# Altium footprint library PCB - CONNECTOR - AMPHENOL RJ45.PCBLIB: 1 footprints
Each footprint in its own frame and in the unit in brackets; x right, y up, seen from the top. Pads: shape width x height; smd on the part's side, far side on the other; paste and mask are expansions set on the pad; w line width, h text height; cw(c..) or ccw(c..) is an arc to the next point about the centre after c.
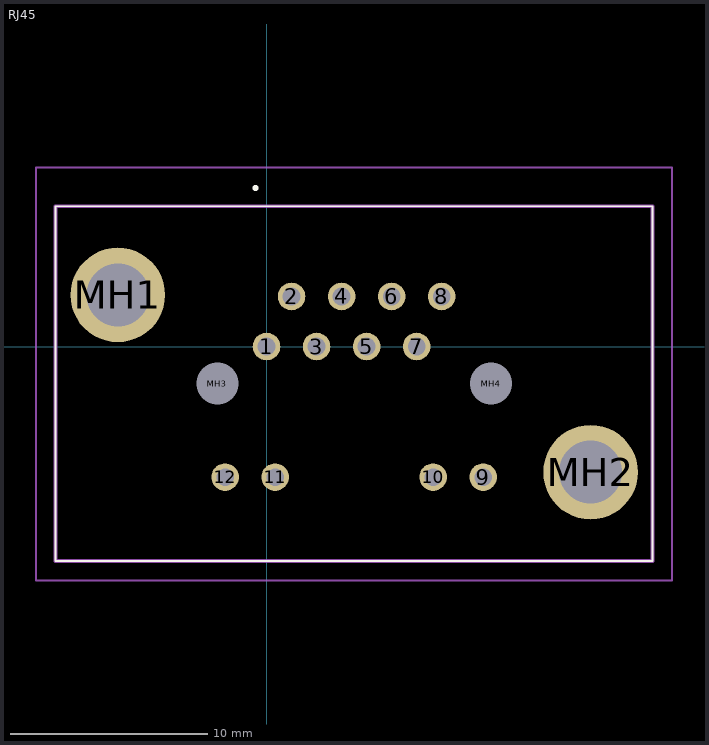
[diagram p0: the footprint, top view; thin cyan lines are the x and y axes]

## RJ45 [mm]
pads (16):
  round 1.4 hole 0.9: 1(0,0) 2(1.27,2.54) 3(2.54,0) 4(3.81,2.54) 5(5.08,0) 6(6.35,2.54) 7(7.62,0) 8(8.89,2.54) 9(11,-6.63) 10(8.46,-6.63) 11(0.44,-6.63) 12(-2.1,-6.63)
  round 4.8 hole 3.2: MH1(-7.55,2.62) MH2(16.45,-6.38)
  round 1.065 hole 2.13 unplated: MH3(-2.5,-1.88) MH4(11.4,-1.88)
Top Overlay:
  lines w0.1: -10.7,-10.88 19.6,-10.88 19.6,7.12 -10.7,7.12 -10.7,-10.88
  lines w0.2: -0.61,8.04 ccw(c-0.56,8.04) -0.51,8.04 ; -0.61,8.04 cw(c-0.56,8.04) -0.51,8.04 ; -0.61,8.04 ccw(c-0.56,8.04) -0.51,8.04
Top Assembly:
  lines w0.2: -10.7,-10.88 19.6,-10.88 19.6,7.12 -10.7,7.12 -10.7,-10.88
Top Courtyard:
  lines w0.1: -11.71,-11.88 20.59,-11.88 20.59,9.09 -11.71,9.09 -11.71,-11.88
Top Designator:
  text ".Designator" at -11.811,11.43 h1
Top Value (Mech13):
  text ".Comment" at -11.811,10.16 h1
3D body "M-MRJR-948X-XC-REVT1.STEP": height 24.98, standoff -5.98, extent -10.578,-10.93 19.722,7.07